# EAGLE library part TEXAS_HVDA540QDRQ1 (library RVschwarzenegger_Controller_RevA)
Can Transceiver With I/O Level Adapting and Low-Power Mode Supply Optimization
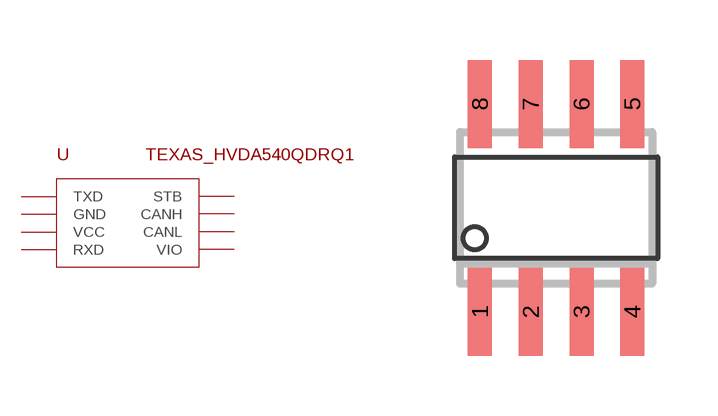
[diagram p6: symbol with the pads of TEXAS_HVDA540QDRQ1; footprint TEXAS_HVDA540QDRQ1]

Designator prefix U

## TEXAS_HVDA540QDRQ1  [TEXAS_HVDA540QDRQ1]
1  TXD
2  GND
3  VCC
4  RXD
5  VIO
6  CANL
7  CANH
8  STB

## Footprint TEXAS_HVDA540QDRQ1 (pad centres in mm)
smd 0.6 x 2.2: 1 -1.905,-2.6; 2 -0.635,-2.6; 3 0.635,-2.6; 4 1.905,-2.6; 5 1.905,2.6; 6 0.635,2.6; 7 -0.635,2.6; 8 -1.905,2.6